# EAGLE library part MPU6050 (library inv_pendulum)
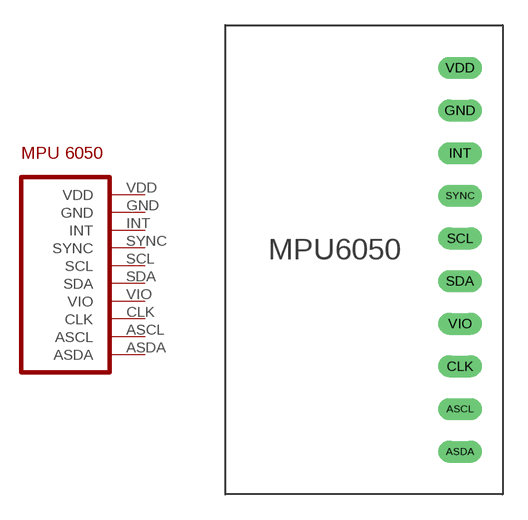
[diagram p0: symbol with the pads of MPU6050; footprint MPU6050]

Designator prefix -

## MPU6050  [MPU6050]
ASCL  ASCL
ASDA  ASDA
CLK  CLK
GND  GND
INT  INT
SCL  SCL
SDA  SDA
SYNC  SYNC
VDD  VDD
VIO  VIO

## Footprint MPU6050 (pad centres in mm)
drill 0.8 long: ASCL 5.08,-8.89; ASDA 5.08,-11.43; CLK 5.08,-6.35; GND 5.08,8.89; INT 5.08,6.35; SCL 5.08,1.27; SDA 5.08,-1.27; SYNC 5.08,3.81; VDD 5.08,11.43; VIO 5.08,-3.81